# Altium schematic symbol library PTS647SK70SMTR2N.SchLib: 1 symbol
Pins are listed as number, name and electrical type; pins without a type are passive.

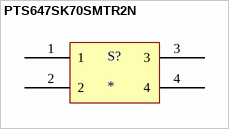
[diagram p0: symbol PTS647SK70SMTR2N]

## PTS647SK70SMTR2N
designator S?
4 pin pushbutton
pins: 1, 2, 3, 4